# Altium footprint library ilk.PcbLib: 78 footprints (part 3 of 5)
Each footprint in its own frame and in the unit in brackets; x right, y up, seen from the top. Pads: shape width x height; smd on the part's side, far side on the other; paste and mask are expansions set on the pad; w line width, h text height; cw(c..) or ccw(c..) is an arc to the next point about the centre after c.
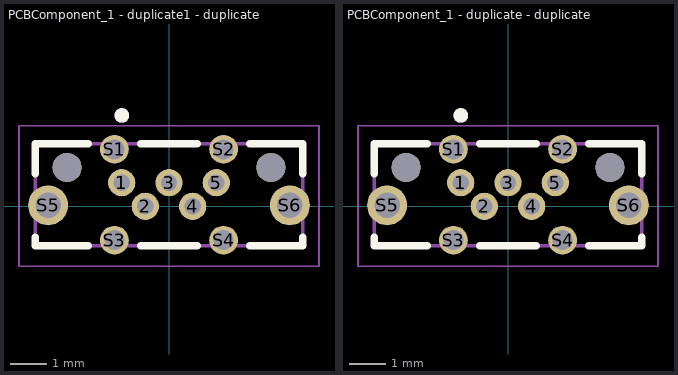
[diagram p2: the footprints below, top view; thin cyan lines are the x and y axes]

## PCBComponent_1 - duplicate [mm]

## PCBComponent_1 - duplicate1 [mm]

## PCBComponent_1 - duplicate1 - duplicate [mm]
pads (13):
  round 0.75 hole 0.45: 1(-1.3,0.65) 2(-0.65,0) 3(0,0.65) 4(0.65,0) 5(1.3,0.65)
  round 0.79 hole 0.55: S1(-1.5,1.57) S2(1.5,1.57) S3(-1.5,-0.93) S4(1.5,-0.93)
  round 1.1 hole 0.7: S5(-3.325,0.03) S6(3.325,0.03)
  round 0.8 hole 0.8 unplated: ""(-2.8,1.07) ""(2.8,1.07)
Top Overlay:
  circle w0.2: c-1.3,2.5 r0.1
  lines w0.2: -3.675,-0.84 -3.675,-1.08 -2.215,-1.08 ; -3.675,0.9 -3.675,1.72 -2.215,1.72 ; -0.785,-1.08 0.785,-1.08 ; -0.785,1.72 0.785,1.72 ; 2.215,-1.08 3.675,-1.08 3.675,-0.84 ; 2.215,1.72 3.675,1.72 3.675,0.9
Mechanical 13:
  circle w0.2: c-1.3,2.5 r0.1
  lines w0.1: -3.675,-1.08 3.675,-1.08 3.675,1.72 -3.675,1.72 -3.675,-1.08
Mechanical 15:
  lines w0.05: -4.125,-1.645 -4.125,2.215 4.125,2.215 4.125,-1.645 -4.125,-1.645
3D body "step_temp.STEP": height 7.23, standoff -1.3, extent -3.675,-1.4 3.675,1.4

## PCBComponent_1 - duplicate2 [mm]

## PCBComponent_1 - duplicate2 - duplicate [mm]

## PCBComponent_1 - duplicate2 - duplicate1 [mm]

## PCBComponent_1 - duplicate2 - duplicate2 [mm]

## PCBComponent_1 - duplicate2 - duplicate3 [mm]

## PCBComponent_1 - duplicate2 - duplicate4 [mm]

## PCBComponent_1 - duplicate2 - duplicate5 [mm]

## PCBComponent_1 - duplicate3 [mm]

## PCBComponent_1 - duplicate4 [mm]

## PCBComponent_1 - duplicate5 [mm]

## PCBComponent_1 - duplicate6 [mm]

## PCBComponent_1 - duplicate7 [mm]

## PCBComponent_1 - duplicate - duplicate [mm]
pads (13):
  round 0.75 hole 0.45: 1(-1.3,0.65) 2(-0.65,0) 3(0,0.65) 4(0.65,0) 5(1.3,0.65)
  round 0.79 hole 0.55: S1(-1.5,1.57) S2(1.5,1.57) S3(-1.5,-0.93) S4(1.5,-0.93)
  round 1.1 hole 0.7: S5(-3.325,0.03) S6(3.325,0.03)
  round 0.8 hole 0.8 unplated: ""(-2.8,1.07) ""(2.8,1.07)
Top Overlay:
  circle w0.2: c-1.3,2.5 r0.1
  lines w0.2: -3.675,-0.84 -3.675,-1.08 -2.215,-1.08 ; -3.675,0.9 -3.675,1.72 -2.215,1.72 ; -0.785,-1.08 0.785,-1.08 ; -0.785,1.72 0.785,1.72 ; 2.215,-1.08 3.675,-1.08 3.675,-0.84 ; 2.215,1.72 3.675,1.72 3.675,0.9
Mechanical 13:
  circle w0.2: c-1.3,2.5 r0.1
  lines w0.1: -3.675,-1.08 -3.675,1.72 3.675,1.72 3.675,-1.08 -3.675,-1.08
Mechanical 15:
  lines w0.05: -4.125,-1.645 4.125,-1.645 4.125,2.215 -4.125,2.215 -4.125,-1.645
3D body "step_temp.STEP": height 7.23, standoff -1.3, extent -3.675,-1.4 3.675,1.4